# Altium footprint library Panasonic-P5KS.PcbLib: 2 footprints
Each footprint in its own frame and in the unit in brackets; x right, y up, seen from the top. Pads: shape width x height; smd on the part's side, far side on the other; paste and mask are expansions set on the pad; w line width, h text height; cw(c..) or ccw(c..) is an arc to the next point about the centre after c.
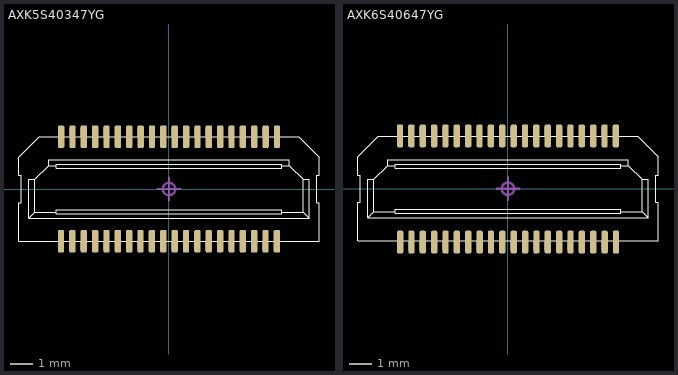
[diagram p0: the footprints below, top view; thin cyan lines are the x and y axes]

## AXK5S40347YG [mm]
pads (40):
  rrect50% 0.28x1 smd: 1(-4.752,-2.3) 2(-4.252,-2.3) 3(-3.752,-2.3) 4(-3.252,-2.3) 5(-2.752,-2.3) 6(-2.252,-2.3) 7(-1.752,-2.3) 8(-1.252,-2.3) 9(-0.752,-2.3) 10(-0.252,-2.3) 11(0.248,-2.3) 12(0.748,-2.3) 13(1.248,-2.3) 14(1.748,-2.3) 15(2.248,-2.3) 16(2.748,-2.3) 17(3.248,-2.3) 18(3.748,-2.3) 19(4.248,-2.3) 20(4.748,-2.3) 21(4.752,2.3) 22(4.252,2.3) 23(3.752,2.3) 24(3.252,2.3) 25(2.752,2.3) 26(2.252,2.3) 27(1.752,2.3) 28(1.252,2.3) 29(0.752,2.3) 30(0.252,2.3) 31(-0.248,2.3) 32(-0.748,2.3) 33(-1.248,2.3) 34(-1.748,2.3) 35(-2.248,2.3) 36(-2.748,2.3) 37(-3.248,2.3) 38(-3.748,2.3) 39(-4.248,2.3) 40(-4.748,2.3)
Top Overlay:
  drawing of 160 lines, arcs and shapes, not listed
Mechanical 15:
  circle w0.1: c0,0 r0.274
  lines w0.1: -0.5,0 0,0 ; 0,-0.5 0,0 ; 0,0.5 0,0 ; 0.5,0 0,0
3D body "axk5s40347y.stp": height 6.05, standoff 0, extent -6.6,-2.7 6.6,2.7

## AXK6S40647YG [mm]
pads (40):
  rrect50% 0.28x1 smd: 1(4.752,-2.348) 2(4.252,-2.348) 3(3.752,-2.348) 4(3.252,-2.348) 5(2.752,-2.348) 6(2.252,-2.348) 7(1.752,-2.348) 8(1.252,-2.348) 9(0.752,-2.348) 10(0.252,-2.348) 11(-0.248,-2.348) 12(-0.748,-2.348) 13(-1.248,-2.348) 14(-1.748,-2.348) 15(-2.248,-2.348) 16(-2.748,-2.348) 17(-3.248,-2.348) 18(-3.748,-2.348) 19(-4.248,-2.348) 20(-4.748,-2.348) 21(-4.752,2.322) 22(-4.252,2.322) 23(-3.752,2.322) 24(-3.252,2.322) 25(-2.752,2.322) 26(-2.252,2.322) 27(-1.752,2.322) 28(-1.252,2.322) 29(-0.752,2.322) 30(-0.252,2.322) 31(0.248,2.322) 32(0.748,2.322) 33(1.248,2.322) 34(1.748,2.322) 35(2.248,2.322) 36(2.748,2.322) 37(3.248,2.322) 38(3.748,2.322) 39(4.248,2.322) 40(4.748,2.322)
Top Overlay:
  drawing of 160 lines, arcs and shapes, not listed
Mechanical 15:
  circle w0.1: c0,0 r0.274
  lines w0.1: -0.5,0 0,0 ; 0,-0.5 0,0 ; 0,0.5 0,0 ; 0.5,0 0,0
3D body "axk6s40647y.stp": height 5.3, standoff 0, extent -6.6,-2.5 6.6,2.5